# Altium footprint library D-PAK.PcbLib: 1 footprints
Each footprint in its own frame and in the unit in brackets; x right, y up, seen from the top. Pads: shape width x height; smd on the part's side, far side on the other; paste and mask are expansions set on the pad; w line width, h text height; cw(c..) or ccw(c..) is an arc to the next point about the centre after c.
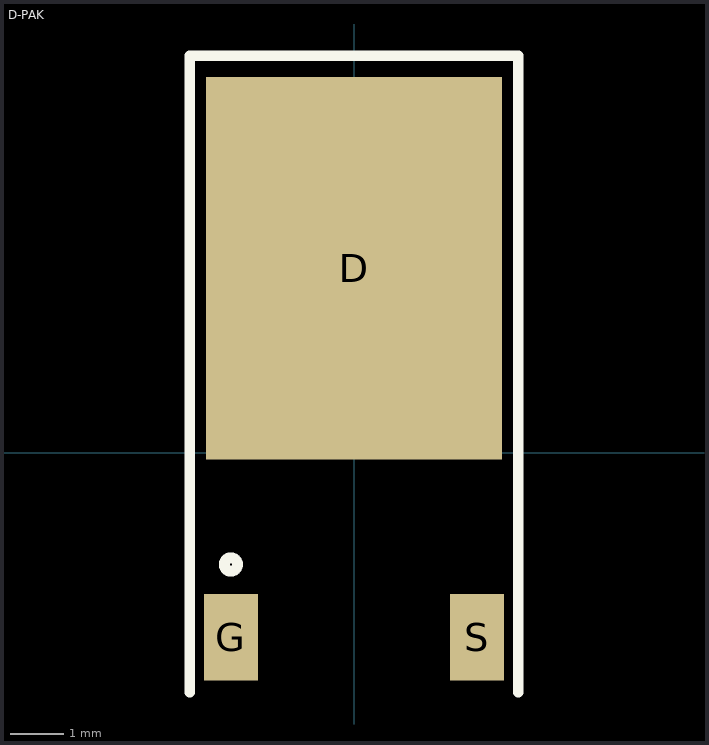
[diagram p0: the footprint, top view; thin cyan lines are the x and y axes]

## D-PAK [mm]
pads (3):
  rect 5.5x7.1 smd: D(0,3.425)
  rect 1x1.6 smd: G(-2.285,-3.425) S(2.285,-3.425)
Top Overlay:
  circle w0.2: c-2.285,-2.075 r0.125
  lines w0.2: -3.048,-4.445 -3.048,7.366 3.048,7.366 3.048,-4.445